# EAGLE library part CS5344 (library NBitWonder)
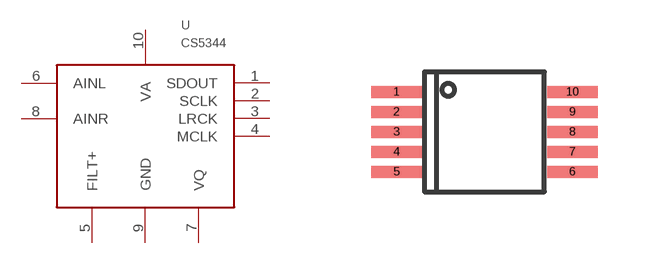
[diagram p25: symbol with the pads of SSOP10; footprint SSOP10]

Designator prefix -

## CS5344  [SSOP10]
1  SDOUT
2  SCLK
3  LRCK
4  MCLK
5  FILT+
6  AINL
7  VQ
8  AINR
9  GND
10  VA

## Footprint SSOP10 (pad centres in mm)
10-pin SSOP This is a 10-pin SSOP with 0.50mm pin pitch.
smd 1.27 x 0.3: 1 -2.2,1; 2 -2.2,0.5; 3 -2.2,0; 4 -2.2,-0.5; 5 -2.2,-1; 6 2.2,-1; 7 2.2,-0.5; 8 2.2,0; 9 2.2,0.5; 10 2.2,1